# EAGLE library part TLV2374IN (library 000_ICS_2021)
Single-Supply, Rail-to-Rail 4x Op Amp
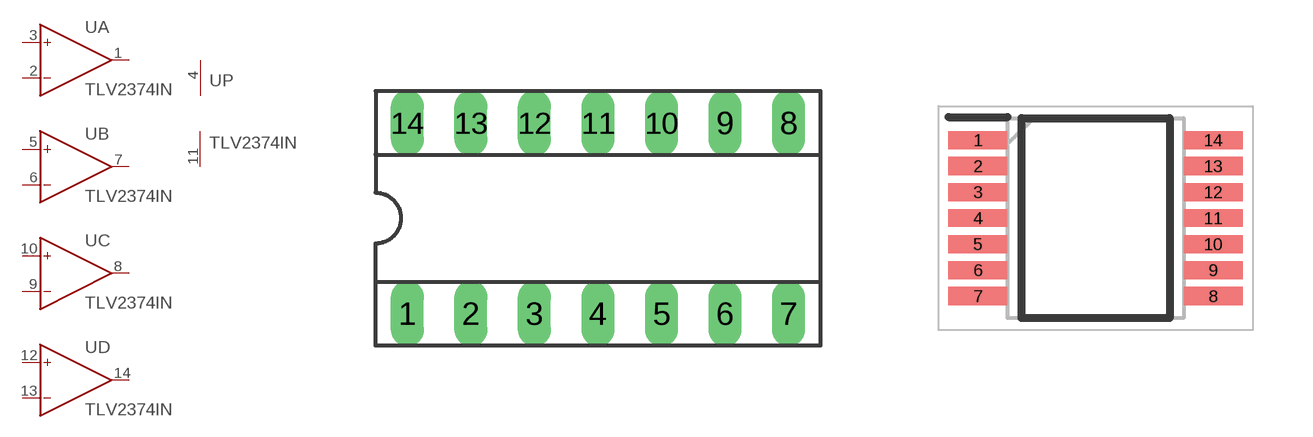
[diagram p3: symbol with the pads of SOCKET-14; footprints SOCKET-14, SOP65P640X120-14N]

Designator prefix U; gates A=OP B=OP P=PWR+- C=OP D=OP

## TLV2374ININ (ICS: ICS-1034; VALUE: TLV2374IN)  [SOCKET-14]
1  A:OUT  out
2  A:IN-  in
3  A:IN+  in
4  P:V+  pwr
5  B:IN+  in
6  B:IN-  in
7  B:OUT  out
8  C:OUT  out
9  C:IN-  in
10  C:IN+  in
11  P:V-  pwr
12  D:IN+  in
13  D:IN-  in
14  D:OUT  out

## TLV2374INIPW (ICS: ICS-1081; VALUE: TLV2374QPWRG4Q1)  [SOP65P640X120-14N]
Pads as for SOCKET-14

## Footprint SOCKET-14 (pad centres in mm)
Dual In Line Socket
drill 0.813 long: 1 -7.62,-3.81; 2 -5.08,-3.81; 3 -2.54,-3.81; 4 0,-3.81; 5 2.54,-3.81; 6 5.08,-3.81; 7 7.62,-3.81; 8 7.62,3.81; 9 5.08,3.81; 10 2.54,3.81; 11 0,3.81; 12 -2.54,3.81; 13 -5.08,3.81; 14 -7.62,3.81

## Footprint SOP65P640X120-14N (pad centres in mm)
PW (R-PDSO-G14)
smd 1.475 x 0.45: 1 -2.938,1.95; 2 -2.938,1.3; 3 -2.938,0.65; 4 -2.938,0; 5 -2.938,-0.65; 6 -2.938,-1.3; 7 -2.938,-1.95; 8 2.938,-1.95; 9 2.938,-1.3; 10 2.938,-0.65; 11 2.938,0; 12 2.938,0.65; 13 2.938,1.3; 14 2.938,1.95